# Altium footprint library 2541FV-2x4P.PcbLib: 1 footprints
Each footprint in its own frame and in the unit in brackets; x right, y up, seen from the top. Pads: shape width x height; smd on the part's side, far side on the other; paste and mask are expansions set on the pad; w line width, h text height; cw(c..) or ccw(c..) is an arc to the next point about the centre after c.
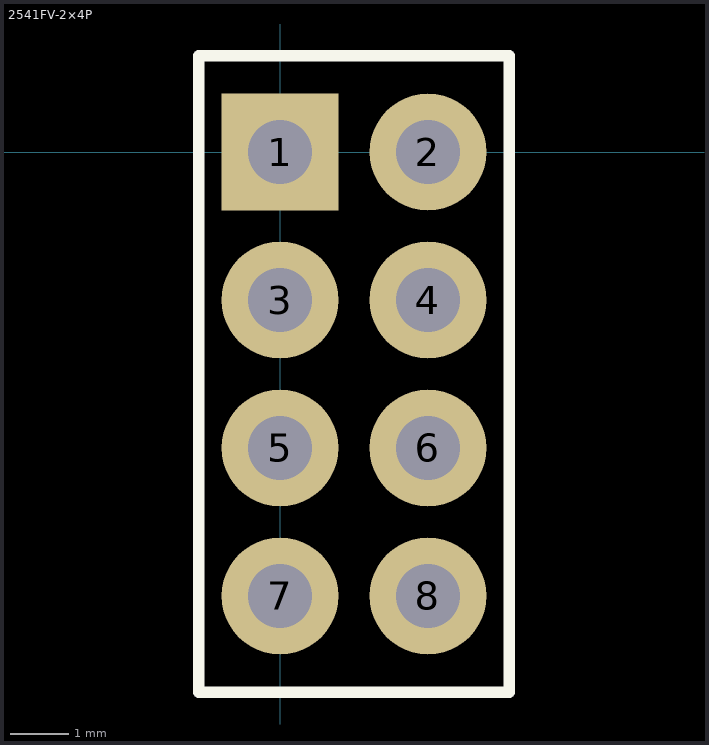
[diagram p0: the footprint, top view; thin cyan lines are the x and y axes]

## 2541FV-2×4P [mm]
pads (8):
  rect 2x2 hole 1.1: 1(0,0)
  round 2 hole 1.1: 2(2.54,0) 3(0,-2.54) 4(2.54,-2.54) 5(0,-5.08) 6(2.54,-5.08) 7(0,-7.62) 8(2.54,-7.62)
Top Overlay:
  lines w0.2: -1.397,-9.271 -1.397,1.651 3.937,1.651 3.937,-9.271 -1.397,-9.271
3D body: height 8.7, standoff 0, extent -1.397,-9.271 3.937,1.651